# Altium schematic symbol library HAKATAYA.SchLib: 83 symbols
Pins are listed as number, name and electrical type; pins without a type are passive.

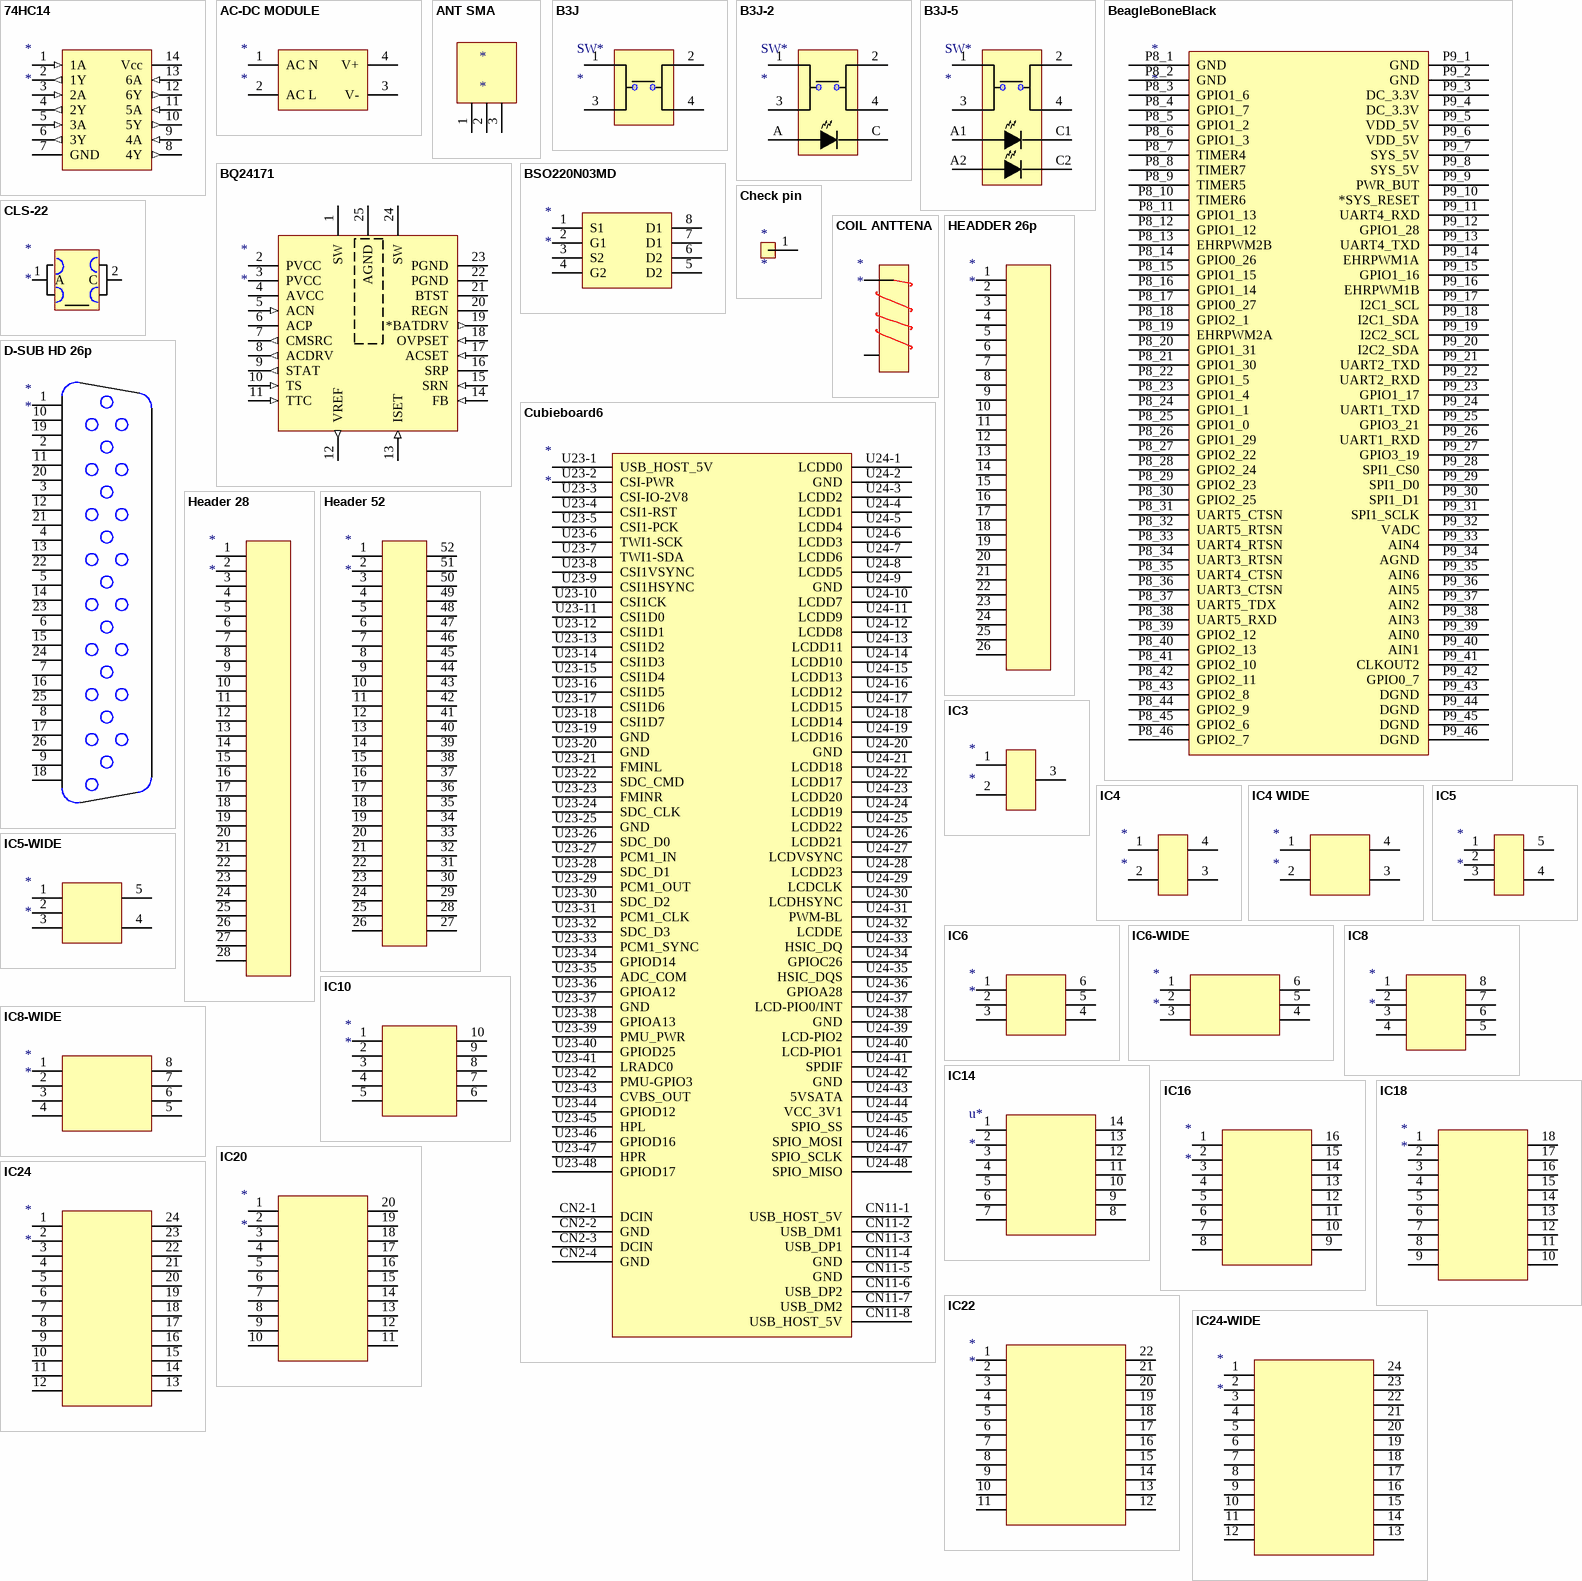
[diagram p0: symbols 74HC14 to IC24-WIDE]

## 74HC14
designator *
footprint DB014 (SSOP, Plastic; 14 Leads; Body Width 5.3 mm; Pitch 0.65 mm)
pins: 1 1A (in), 2 1Y (out), 3 2A (in), 4 2Y (out), 5 3A (in), 6 3Y (out), 7 GND (power), 8 4Y (out), 9 4A (in), 10 5Y (out), 11 5A (in), 12 6Y (out), 13 6A (in), 14 Vcc (power)

## AC-DC MODULE
designator *
pins: 1 AC N, 2 AC L, 3 V-, 4 V+

## ANT SMA
designator *
pins: 1, 2, 3

## B3J
designator SW*
pins: 1, 2, 3, 4 2

## B3J-2
designator SW*
pins: 1, 2, 3, 4 2, A, C

## B3J-5
designator SW*
pins: 1, 2, 3, 4 2, A1, A2, C1, C2

## BeagleBoneBlack
designator *
footprint BeagleBoneBlack
pins: P8_1 GND, P8_2 GND, P8_3 GPIO1_6, P8_4 GPIO1_7, P8_5 GPIO1_2, P8_6 GPIO1_3, P8_7 TIMER4, P8_8 TIMER7, P8_9 TIMER5, P8_10 TIMER6, P8_11 GPIO1_13, P8_12 GPIO1_12, P8_13 EHRPWM2B, P8_14 GPIO0_26, P8_15 GPIO1_15, P8_16 GPIO1_14, P8_17 GPIO0_27, P8_18 GPIO2_1, P8_19 EHRPWM2A, P8_20 GPIO1_31, P8_21 GPIO1_30, P8_22 GPIO1_5, P8_23 GPIO1_4, P8_24 GPIO1_1, P8_25 GPIO1_0, P8_26 GPIO1_29, P8_27 GPIO2_22, P8_28 GPIO2_24, P8_29 GPIO2_23, P8_30 GPIO2_25, P8_31 UART5_CTSN, P8_32 UART5_RTSN, P8_33 UART4_RTSN, P8_34 UART3_RTSN, P8_35 UART4_CTSN, P8_36 UART3_CTSN, P8_37 UART5_TDX, P8_38 UART5_RXD, P8_39 GPIO2_12, P8_40 GPIO2_13, P8_41 GPIO2_10, P8_42 GPIO2_11, P8_43 GPIO2_8, P8_44 GPIO2_9, P8_45 GPIO2_6, P8_46 GPIO2_7, P9_1 GND, P9_2 GND, P9_3 DC_3.3V (power), P9_4 DC_3.3V (power), P9_5 VDD_5V (power), P9_6 VDD_5V (power), P9_7 SYS_5V (power), P9_8 SYS_5V (power), P9_9 PWR_BUT, P9_10 *SYS_RESET, P9_11 UART4_RXD, P9_12 GPIO1_28, P9_13 UART4_TXD, P9_14 EHRPWM1A, P9_15 GPIO1_16, P9_16 EHRPWM1B, P9_17 I2C1_SCL, P9_18 I2C1_SDA, P9_19 I2C2_SCL, P9_20 I2C2_SDA, P9_21 UART2_TXD, P9_22 UART2_RXD, P9_23 GPIO1_17, P9_24 UART1_TXD, P9_25 GPIO3_21, P9_26 UART1_RXD, P9_27 GPIO3_19, P9_28 SPI1_CS0, P9_29 SPI1_D0, P9_30 SPI1_D1, P9_31 SPI1_SCLK, P9_32 VADC, P9_33 AIN4, P9_34 AGND, P9_35 AIN6, P9_36 AIN5, P9_37 AIN2, P9_38 AIN3, P9_39 AIN0, P9_40 AIN1, P9_41 CLKOUT2, P9_42 GPIO0_7, P9_43 DGND, P9_44 DGND, P9_45 DGND, P9_46 DGND

## BQ24171
designator *
pins: 1 SW (power), 2 PVCC (power), 3 PVCC (power), 4 AVCC (power), 5 ACN (in), 6 ACP (power), 7 CMSRC (out), 8 ACDRV (out), 9 STAT (out), 10 TS (in), 11 TTC (in), 12 VREF (out), 13 ISET (in), 14 FB (in), 15 SRN (in), 16 SRP (power), 17 ACSET (in), 18 OVPSET (in), 19 *BATDRV (out), 20 REGN (power), 21 BTST (power), 22 PGND (power), 23 PGND (power), 24 SW (power), 25 AGND (power)

## BSO220N03MD
designator *
pins: 1 S1, 2 G1, 3 S2, 4 G2, 5 D2, 6 D2, 7 D1, 8 D1

## Check pin
designator *
pins: 1

## CLS-22
designator *
footprint CLS-15-22C
pins: 1 A, 2 C

## COIL ANTTENA
designator *
pins: 1, 3

## Cubieboard6
designator *
footprint Cubieboard6
pins: CN2-1 DCIN, CN2-2 GND, CN2-3 DCIN, CN2-4 GND, CN11-1 USB_HOST_5V, CN11-2 USB_DM1, CN11-3 USB_DP1, CN11-4 GND, CN11-5 GND, CN11-6 USB_DP2, CN11-7 USB_DM2, CN11-8 USB_HOST_5V, U23-1 USB_HOST_5V, U23-2 CSI-PWR, U23-3 CSI-IO-2V8, U23-4 CSI1-RST, U23-5 CSI1-PCK, U23-6 TWI1-SCK, U23-7 TWI1-SDA, U23-8 CSI1VSYNC, U23-9 CSI1HSYNC, U23-10 CSI1CK, U23-11 CSI1D0, U23-12 CSI1D1, U23-13 CSI1D2, U23-14 CSI1D3, U23-15 CSI1D4, U23-16 CSI1D5, U23-17 CSI1D6, U23-18 CSI1D7, U23-19 GND, U23-20 GND, U23-21 FMINL, U23-22 SDC_CMD, U23-23 FMINR, U23-24 SDC_CLK, U23-25 GND, U23-26 SDC_D0, U23-27 PCM1_IN, U23-28 SDC_D1, U23-29 PCM1_OUT, U23-30 SDC_D2, U23-31 PCM1_CLK, U23-32 SDC_D3, U23-33 PCM1_SYNC, U23-34 GPIOD14, U23-35 ADC_COM, U23-36 GPIOA12, U23-37 GND, U23-38 GPIOA13, U23-39 PMU_PWR, U23-40 GPIOD25, U23-41 LRADC0, U23-42 PMU-GPIO3, U23-43 CVBS_OUT, U23-44 GPIOD12, U23-45 HPL, U23-46 GPIOD16, U23-47 HPR, U23-48 GPIOD17, U24-1 LCDD0, U24-2 GND, U24-3 LCDD2 (power), U24-4 LCDD1 (power), U24-5 LCDD4 (power), U24-6 LCDD3 (power), U24-7 LCDD6 (power), U24-8 LCDD5 (power), U24-9 GND, U24-10 LCDD7, U24-11 LCDD9, U24-12 LCDD8, U24-13 LCDD11, U24-14 LCDD10, U24-15 LCDD13, U24-16 LCDD12, U24-17 LCDD15, U24-18 LCDD14, U24-19 LCDD16, U24-20 GND, U24-21 LCDD18, U24-22 LCDD17, U24-23 LCDD20, U24-24 LCDD19, U24-25 LCDD22, U24-26 LCDD21, U24-27 LCDVSYNC, U24-28 LCDD23, U24-29 LCDCLK, U24-30 LCDHSYNC, U24-31 PWM-BL, U24-32 LCDDE, U24-33 HSIC_DQ, U24-34 GPIOC26, U24-35 HSIC_DQS, U24-36 GPIOA28, U24-37 LCD-PIO0/INT, U24-38 GND, U24-39 LCD-PIO2, U24-40 LCD-PIO1, U24-41 SPDIF, U24-42 GND, U24-43 5VSATA, U24-44 VCC_3V1, U24-45 SPIO_SS, U24-46 SPIO_MOSI, U24-47 SPIO_SCLK, U24-48 SPIO_MISO

## D-SUB HD 26p
designator *
footprint D-SUB HD 26p (9,8,9)
pins: 1, 2, 3, 4, 5, 6, 7, 8, 9, 10, 11, 12, 13, 14, 15, 16, 17, 18, 19, 20, 21, 22, 23, 24, 25, 26

## HEADDER 26p
designator *
pins: 1, 2, 3, 4, 5, 6, 7, 8, 9, 10, 11, 12, 13, 14, 15, 16, 17, 18, 19, 20, 21, 22, 23, 24, 25, 26

## Header 28
designator *
pins: 1, 2, 3, 4, 5, 6, 7, 8, 9, 10, 11, 12, 13, 14, 15, 16, 17, 18, 19, 20, 21, 22, 23, 24, 25, 26, 27, 28

## Header 52
designator *
pins: 1, 2, 3, 4, 5, 6, 7, 8, 9, 10, 11, 12, 13, 14, 15, 16, 17, 18, 19, 20, 21, 22, 23, 24, 25, 26, 27, 28, 29, 30, 31, 32, 33, 34, 35, 36, 37, 38, 39, 40, 41, 42, 43, 44, 45, 46, 47, 48, 49, 50, 51, 52

## IC3
designator *
pins: 1, 2, 3

## IC4
designator *
pins: 1, 2, 3, 4

## IC4 WIDE
designator *
pins: 1, 2, 3, 4

## IC5
designator *
pins: 1, 2, 3, 4, 5

## IC5-WIDE
designator *
pins: 1, 2, 3, 4, 5

## IC6
designator *
pins: 1, 2, 3, 4, 5, 6

## IC6-WIDE
designator *
pins: 1, 2, 3, 4, 5, 6

## IC8
designator *
pins: 1, 2, 3, 4, 5, 6, 7, 8

## IC8-WIDE
designator *
pins: 1, 2, 3, 4, 5, 6, 7, 8

## IC10
designator *
pins: 1, 2, 3, 4, 5, 6, 7, 8, 9, 10

## IC14
designator u*
pins: 1, 2, 3, 4, 5, 6, 7, 8, 9, 10, 11, 12, 13, 14

## IC16
designator *
pins: 1, 2, 3, 4, 5, 6, 7, 8, 9, 10, 11, 12, 13, 14, 15, 16

## IC18
designator *
pins: 1, 2, 3, 4, 5, 6, 7, 8, 9, 10, 11, 12, 13, 14, 15, 16, 17, 18

## IC20
designator *
pins: 1, 2, 3, 4, 5, 6, 7, 8, 9, 10, 11, 12, 13, 14, 15, 16, 17, 18, 19, 20

## IC22
designator *
pins: 1, 2, 3, 4, 5, 6, 7, 8, 9, 10, 11, 12, 13, 14, 15, 16, 17, 18, 19, 20, 21, 22

## IC24
designator *
pins: 1, 2, 3, 4, 5, 6, 7, 8, 9, 10, 11, 12, 13, 14, 15, 16, 17, 18, 19, 20, 21, 22, 23, 24

## IC24-WIDE
designator *
pins: 1, 2, 3, 4, 5, 6, 7, 8, 9, 10, 11, 12, 13, 14, 15, 16, 17, 18, 19, 20, 21, 22, 23, 24

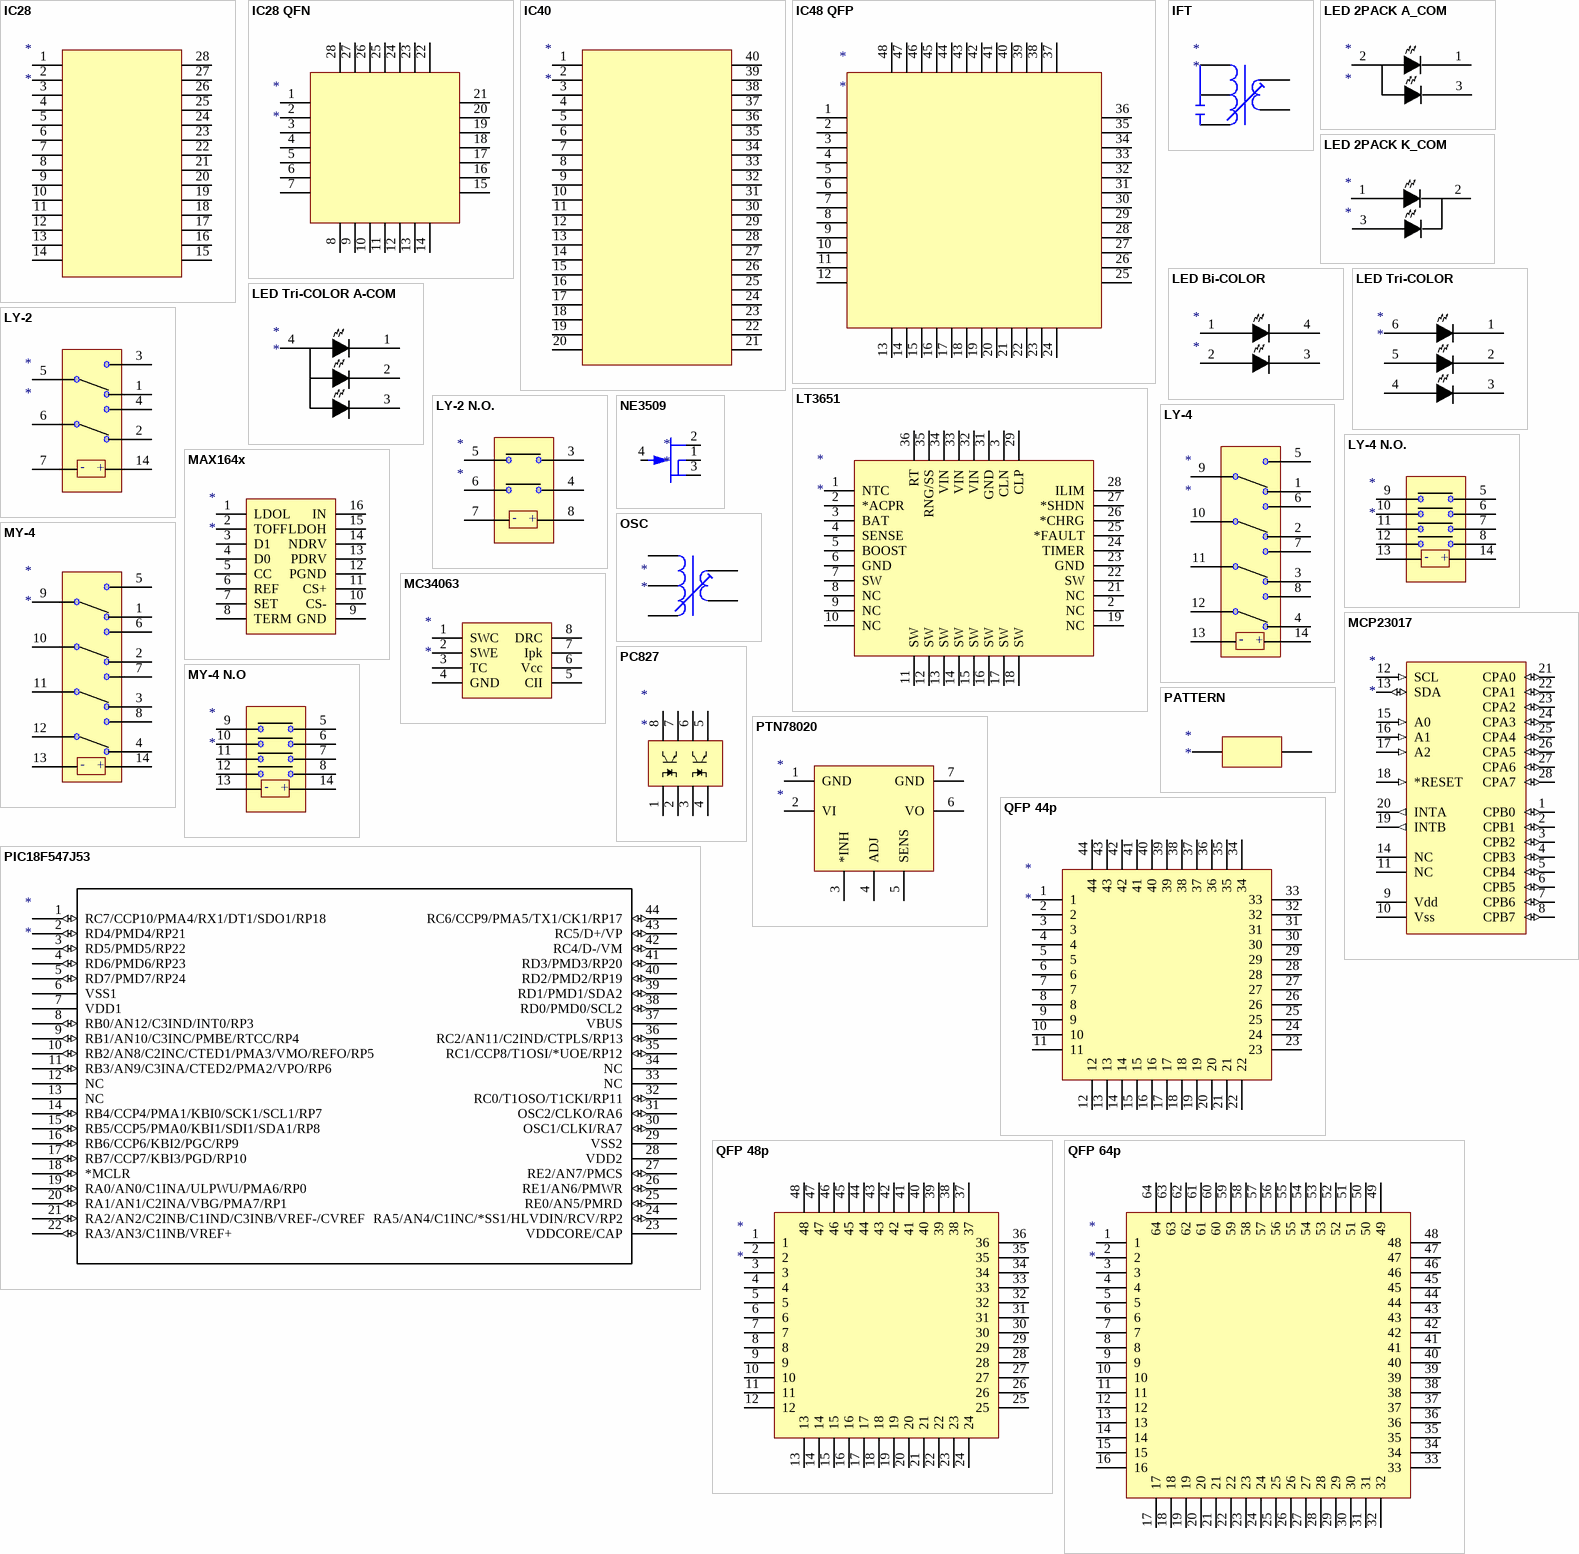
[diagram p1: symbols IC28 to QFP 64p]

## IC28
designator *
pins: 1, 2, 3, 4, 5, 6, 7, 8, 9, 10, 11, 12, 13, 14, 15, 16, 17, 18, 19, 20, 21, 22, 23, 24, 25, 26, 27, 28

## IC28 QFN
designator *
pins: 1, 2, 3, 4, 5, 6, 7, 8, 9, 10, 11, 12, 13, 14, 15, 16, 17, 18, 19, 20, 21, 22, 23, 24, 25, 26, 27, 28

## IC40
designator *
pins: 1, 2, 3, 4, 5, 6, 7, 8, 9, 10, 11, 12, 13, 14, 15, 16, 17, 18, 19, 20, 21, 22, 23, 24, 25, 26, 27, 28, 29, 30, 31, 32, 33, 34, 35, 36, 37, 38, 39, 40

## IC48 QFP
designator *
pins: 1, 2, 3, 4, 5, 6, 7, 8, 9, 10, 11, 12, 13, 14, 15, 16, 17, 18, 19, 20, 21, 22, 23, 24, 25, 26, 27, 28, 29, 30, 31, 32, 33, 34, 35, 36, 37, 38, 39, 40, 41, 42, 43, 44, 45, 46, 47, 48

## IFT
designator *
pins: 1, 2 A, 3, 4, 5

## LED 2PACK A_COM
designator *
footprint LED 3READ
pins: 1 K1, 2 A, 3 K2

## LED 2PACK K_COM
designator *
footprint LED 3READ
pins: 1 A1, 2 K, 3 A2

## LED Bi-COLOR
designator *
footprint LED SMD Bi-COLOR (PITCH 0.75 / 4READS)
pins: 1 A1, 2 A2, 3 K2, 4 K1

## LED Tri-COLOR
designator *
pins: 1 K1, 2 K2, 3 K3, 4 A3, 5 A2, 6 A1

## LED Tri-COLOR A-COM
designator *
pins: 1 K1, 2 K2, 3 K3, 4 A

## LT3651
designator *
pins: 1 NTC, 2 *ACPR, 2 NC, 3 BAT, 3 CLN, 4 SENSE, 5 BOOST, 6 GND, 7 SW, 8 NC, 9 NC, 10 NC, 11 SW, 12 SW, 13 SW, 14 SW, 15 SW, 16 SW, 17 SW, 18 SW, 19 NC, 21 NC, 22 SW, 23 GND, 24 TIMER, 25 *FAULT, 26 *CHRG, 27 *SHDN, 28 ILIM, 29 CLP, 31 GND, 32 VIN, 33 VIN, 34 VIN, 35 RNG/SS, 36 RT

## LY-2
designator *
pins: 1, 2, 3, 4, 5, 6, 7, 14
text: -; +

## LY-2 N.O.
designator *
pins: 3, 4, 5, 6, 7, 8
text: -; +

## LY-4
designator *
pins: 1, 2, 3, 4, 5, 6, 7, 8, 9, 10, 11, 12, 13, 14
text: -; +

## LY-4 N.O.
designator *
pins: 5, 6, 7, 8, 9, 10, 11, 12, 13, 14
text: -; +

## MAX164x
designator *
pins: 1 LDOL, 2 TOFF, 3 D1, 4 D0, 5 CC, 6 REF, 7 SET, 8 TERM, 9 GND, 10 CS-, 11 CS+, 12 PGND, 13 PDRV, 14 NDRV, 15 LDOH, 16 IN

## MC34063
designator *
footprint SO-8 (MC34063_ST)
pins: 1 SWC, 2 SWE, 3 TC, 4 GND, 5 CII, 6 Vcc, 7 Ipk, 8 DRC

## MCP23017
designator *
footprint QFN-S28_L (28-Pin Saw Version Quad Flat No-Lead 0.65 mm Pitch, IPC High Density)
pins: 1 CPB0 (io), 2 CPB1 (io), 3 CPB2 (io), 4 CPB3 (io), 5 CPB4 (io), 6 CPB5 (io), 7 CPB6 (io), 8 CPB7 (io), 9 Vdd (power), 10 Vss (power), 11 NC, 12 SCL (in), 13 SDA (io), 14 NC, 15 A0 (in), 16 A1 (in), 17 A2 (in), 18 *RESET (in), 19 INTB (out), 20 INTA (out), 21 CPA0 (io), 22 CPA1 (io), 23 CPA2 (io), 24 CPA3 (io), 25 CPA4 (io), 26 CPA5 (io), 27 CPA6 (io), 28 CPA7 (io)

## MY-4
designator *
pins: 1, 2, 3, 4, 5, 6, 7, 8, 9, 10, 11, 12, 13, 14
text: -; +

## MY-4 N.O
designator *
pins: 5, 6, 7, 8, 9, 10, 11, 12, 13, 14
text: -; +

## NE3509
designator *
pins: 1 S, 2 D, 3 S, 4 G

## OSC
designator *
pins: 1, 2, 3, 4, 5

## PATTERN
designator *
pins: 1, 2

## PC827
designator *
footprint DIP-P8/E10
pins: 1, 2, 3, 4 2, 5, 6, 7, 8

## PIC18F547J53
designator *
footprint TQFP44_10x10MC
pins: 1 RC7/CCP10/PMA4/RX1/DT1/SDO1/RP18 (io), 2 RD4/PMD4/RP21 (io), 3 RD5/PMD5/RP22 (io), 4 RD6/PMD6/RP23 (io), 5 RD7/PMD7/RP24 (io), 6 VSS1 (power), 7 VDD1 (power), 8 RB0/AN12/C3IND/INT0/RP3 (io), 9 RB1/AN10/C3INC/PMBE/RTCC/RP4 (io), 10 RB2/AN8/C2INC/CTED1/PMA3/VMO/REFO/RP5 (io), 11 RB3/AN9/C3INA/CTED2/PMA2/VPO/RP6 (io), 12 NC, 13 NC, 14 RB4/CCP4/PMA1/KBI0/SCK1/SCL1/RP7 (io), 15 RB5/CCP5/PMA0/KBI1/SDI1/SDA1/RP8 (io), 16 RB6/CCP6/KBI2/PGC/RP9 (io), 17 RB7/CCP7/KBI3/PGD/RP10 (io), 18 *MCLR (io), 19 RA0/AN0/C1INA/ULPWU/PMA6/RP0 (io), 20 RA1/AN1/C2INA/VBG/PMA7/RP1 (io), 21 RA2/AN2/C2INB/C1IND/C3INB/VREF-/CVREF (io), 22 RA3/AN3/C1INB/VREF+ (io), 23 VDDCORE/CAP (power), 24 RA5/AN4/C1INC/*SS1/HLVDIN/RCV/RP2 (io), 25 RE0/AN5/PMRD (io), 26 RE1/AN6/PMWR (io), 27 RE2/AN7/PMCS (io), 28 VDD2 (power), 29 VSS2 (power), 30 OSC1/CLKI/RA7 (io), 31 OSC2/CLKO/RA6 (io), 32 RC0/T1OSO/T1CKI/RP11 (io), 33 NC, 34 NC, 35 RC1/CCP8/T1OSI/*UOE/RP12 (io), 36 RC2/AN11/C2IND/CTPLS/RP13 (io), 37 VBUS (power), 38 RD0/PMD0/SCL2 (io), 39 RD1/PMD1/SDA2 (io), 40 RD2/PMD2/RP19 (io), 41 RD3/PMD3/RP20 (io), 42 RC4/D-/VM (io), 43 RC5/D+/VP (io), 44 RC6/CCP9/PMA5/TX1/CK1/RP17 (io)

## PTN78020
designator *
footprint PTN78020 (REGURATOR Ti PTN78020W)
pins: 1 GND, 2 VI, 3 *INH, 4 ADJ, 5 SENS, 6 VO, 7 GND

## QFP 44p
designator *
footprint QFP 44P (0.8mm PITCH, 10mm BODY, SQR)
pins: 1, 2, 3, 4, 5, 6, 7, 8, 9, 10, 11, 12, 13, 14, 15, 16, 17, 18, 19, 20, 21, 22, 23, 24, 25, 26, 27, 28, 29, 30, 31, 32, 33, 34, 35, 36, 37, 38, 39, 40, 41, 42, 43, 44

## QFP 48p
designator *
footprint DW1000 (Pitch:0.4mm)
pins: 1, 2, 3, 4, 5, 6, 7, 8, 9, 10, 11, 12, 13, 14, 15, 16, 17, 18, 19, 20, 21, 22, 23, 24, 25, 26, 27, 28, 29, 30, 31, 32, 33, 34, 35, 36, 37, 38, 39, 40, 41, 42, 43, 44, 45, 46, 47, 48

## QFP 64p
designator *
footprint TQFP 64P (10x10x1 mm, 2.00mm)
pins: 1, 2, 3, 4, 5, 6, 7, 8, 9, 10, 11, 12, 13, 14, 15, 16, 17, 18, 19, 20, 21, 22, 23, 24, 25, 26, 27, 28, 29, 30, 31, 32, 33, 34, 35, 36, 37, 38, 39, 40, 41, 42, 43, 44, 45, 46, 47, 48, 49, 50, 51, 52, 53, 54, 55, 56, 57, 58, 59, 60, 61, 62, 63, 64

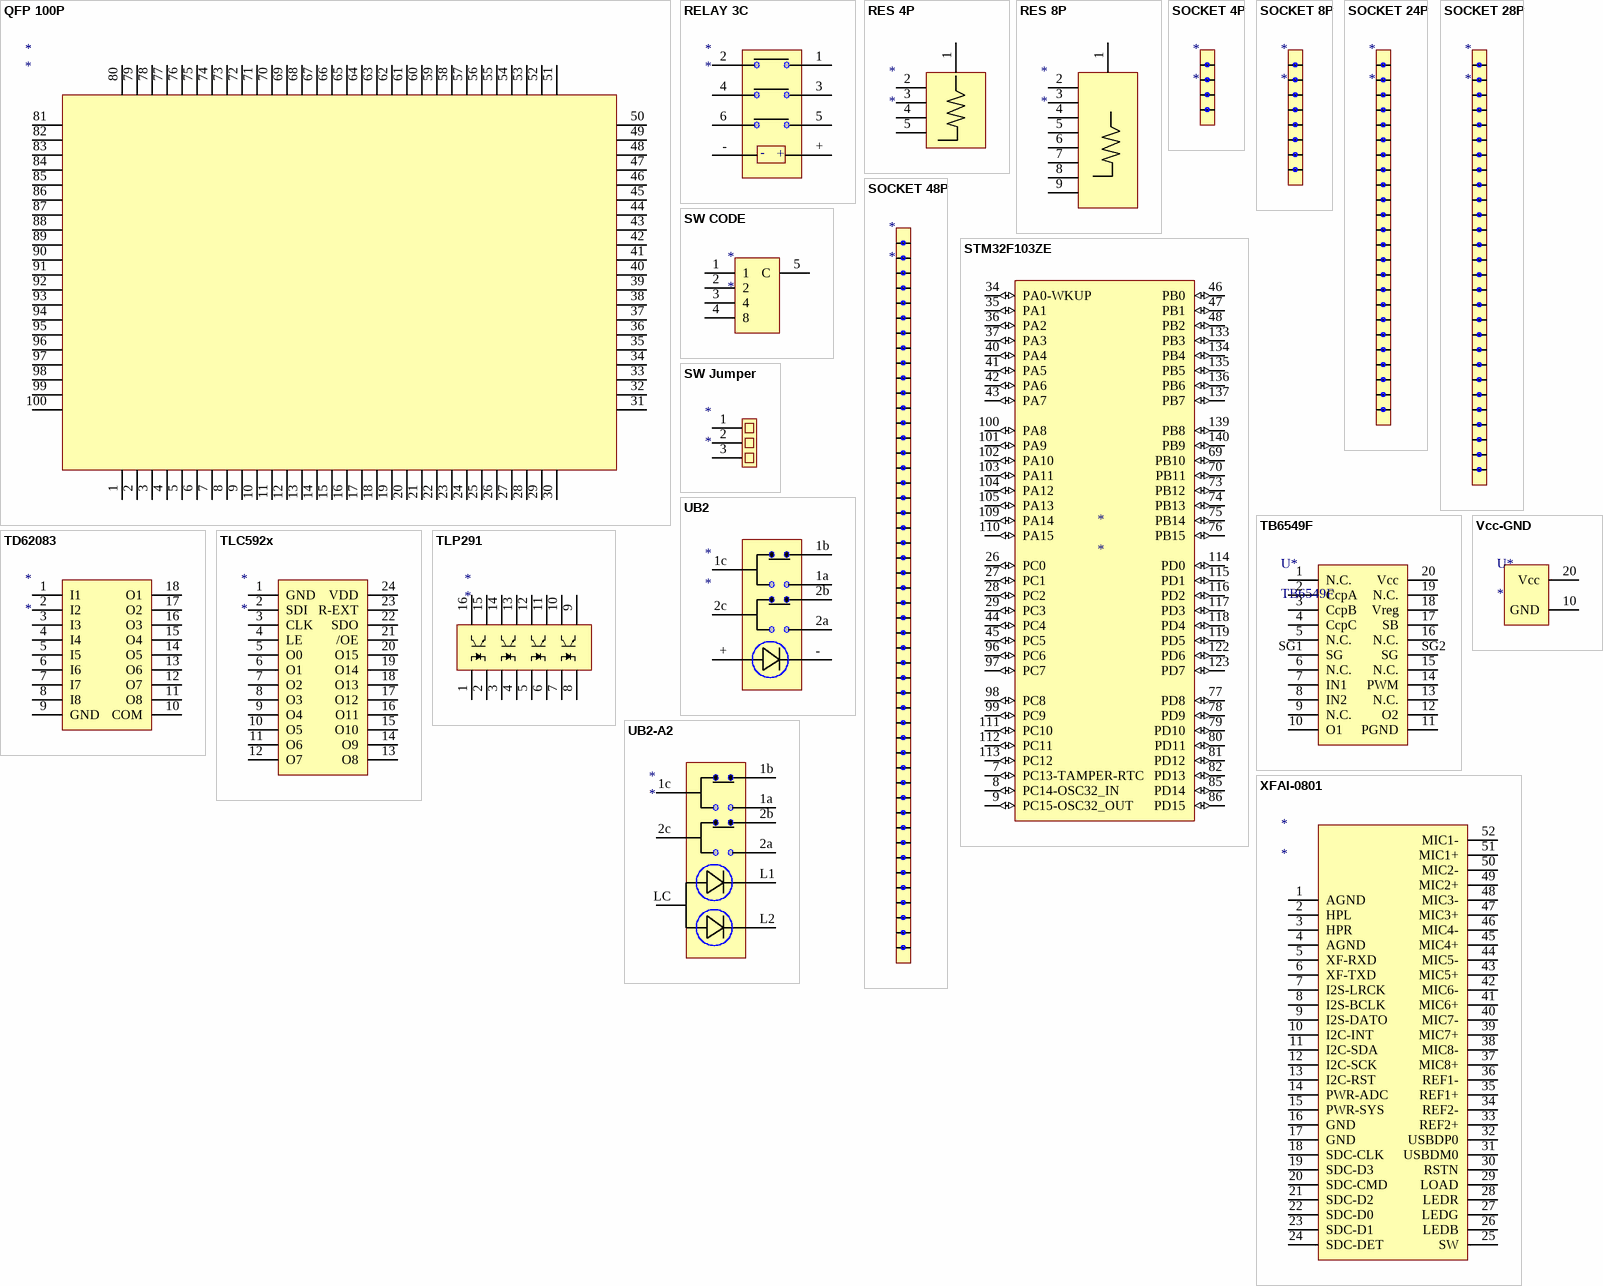
[diagram p2: symbols QFP 100P to XFAI-0801]

## QFP 100P
designator *
pins: 1, 2, 3, 4, 5, 6, 7, 8, 9, 10, 11, 12, 13, 14, 15, 16, 17, 18, 19, 20, 21, 22, 23, 24, 25, 26, 27, 28, 29, 30, 31, 32, 33, 34, 35, 36, 37, 38, 39, 40, 41, 42, 43, 44, 45, 46, 47, 48, 49, 50, 51, 52, 53, 54, 55, 56, 57, 58, 59, 60, 61, 62, 63, 64, 65, 66, 67, 68, 69, 70, 71, 72, 73, 74, 75, 76, 77, 78, 79, 80, 81, 82, 83, 84, 85, 86, 87, 88, 89, 90, 91, 92, 93, 94, 95, 96, 97, 98, 99, 100

## RELAY 3C
designator *
pins: 1, 2, 3, 4, 5, 6, + 8, - 7

## RES 4P
designator *
footprint SIP 5P
pins: 1, 2, 3, 4, 5

## RES 8P
designator *
pins: 1, 2, 3, 4, 5, 6, 7, 8, 9

## SOCKET 4P
designator *
pins: 1, 2, 3, 4

## SOCKET 8P
designator *
pins: 1, 2, 3, 4, 5, 6, 7, 8

## SOCKET 24P
designator *
pins: 1, 2, 3, 4, 5, 6, 7, 8, 9, 10, 11, 12, 13, 14, 15, 16, 17, 18, 19, 20, 21, 22, 23, 24

## SOCKET 28P
designator *
pins: 1, 2, 3, 4, 5, 6, 7, 8, 9, 10, 11, 12, 13, 14, 15, 16, 17, 18, 19, 20, 21, 22, 23, 24, 25, 26, 27, 28

## SOCKET 48P
designator *
pins: 1, 2, 3, 4, 5, 6, 7, 8, 9, 10, 11, 12, 13, 14, 15, 16, 17, 18, 19, 20, 21, 22, 23, 24, 25, 26, 27, 28, 29, 30, 31, 32, 33, 34, 35, 36, 37, 38, 39, 40, 41, 42, 43, 44, 45, 46, 47, 48

## STM32F103ZE
designator *
footprint STM-LQFP144_N
pins: 7 PC13-TAMPER-RTC (io) "PC13-TAMPER-RTC/PC13/TAMPER-RTC", 8 PC14-OSC32_IN (io) "PC14-OSC32_IN/PC14/OSC32_IN", 9 PC15-OSC32_OUT (io) "PC15-OSC32_OUT/PC15/OSC32_OUT", 26 PC0 (io) "PC0/ADC123_IN10", 27 PC1 (io) "PC1/ADC123_IN11", 28 PC2 (io) "PC2/ADC123_IN12", 29 PC3 (io) "PC3/ADC123_IN13", 34 PA0-WKUP (io) "PA0-WKUP/PA0/WKUP/USART2_CTS/ADC123_IN0/TIM2_CH1_ETR/TIM5_CH1/TIM8_ETR", 35 PA1 (io) "PA1/USART2_RTS/ADC123_IN1/TIM5_CH2/TIM2_CH2", 36 PA2 (io) "PA2/USART2_TX/TIM5_CH3/ADC123_IN2/TIM2_CH3", 37 PA3 (io) "PA3/USART2_RX/TIM5_CH4/ADC123_IN3/TIM2_CH4", 40 PA4 (io) "PA4/SPI1_NSS/USART2_CK/DAC_OUT1/ADC12_IN4", 41 PA5 (io) "PA5/SPI1_SCK/DAC_OUT2/ADC12_IN5", 42 PA6 (io) "PA6/SPI1_MISO/TIM8_BKIN/ADC12_IN6/TIM3_CH1/TIM1_BKIN", 43 PA7 (io) "PA7/SPI1_MOSI/TIM8_CH1N/ADC12_IN7/TIM3_CH2/TIM1_CH1N", 44 PC4 (io) "PC4/ADC12_IN14", 45 PC5 (io) "PC5/ADC12_IN15", 46 PB0 (io) "PB0/ADC12_IN8/TIM3_CH3/TIM8_CH2N/TIM1_CH2N", 47 PB1 (io) "PB1/ADC12_IN9/TIM3_CH4/TIM8_CH3N/TIM1_CH3N", 48 PB2 (io) "PB2/BOOT1", 69 PB10 (io) "PB10/I2C2_SCL/USART3_TX/TIM2_CH3", 70 PB11 (io) "PB11/I2C2_SDA/USART3_RX/TIM2_CH4", 73 PB12 (io) "PB12/SPI2_NSS/I2S2_WS/I2C2_SMBA/USART3_CK/TIM1_BKIN", 74 PB13 (io) "PB13/SPI2_SCK/I2S2_CK/USART3_CTS/TIM1_CH1N", 75 PB14 (io) "PB14/SPI2_MISO/TIM1_CH2N/USART3_RTS", 76 PB15 (io) "PB15/SPI2_MOSI/I2S2_SD/TIM1_CH3N", 77 PD8 (io) "PD8/FSMC_D13/USART3_TX", 78 PD9 (io) "PD9/FSMC_D14/USART3_RX", 79 PD10 (io) "PD10/FSMC_D15/USART3_CK", 80 PD11 (io) "PD11/FSMC_A16/USART3_CTS", 81 PD12 (io) "PD12/FSMC_A17/TIM4_CH1/USART3_RTS", 82 PD13 (io) "PD13/FSMC_A18/TIM4_CH2", 85 PD14 (io) "PD14/FSMC_D0/TIM4_CH3", 86 PD15 (io) "PD15/FSMC_D1/TIM4_CH4", 96 PC6 (io) "PC6/I2S2_MCK/TIM8_CH1/SDIO_D6/TIM3_CH1", 97 PC7 (io) "PC7/I2S3_MCK/TIM8_CH2/SDIO_D7/TIM3_CH2", 98 PC8 (io) "PC8/TIM8_CH3/SDIO_D0/TIM3_CH3", 99 PC9 (io) "PC9/TIM8_CH4/SDIO_D1/TIM3_CH4", 100 PA8 (io) "PA8/USART1_CK/TIM1_CH1/MCO", 101 PA9 (io) "PA9/USART1_TX/TIM1_CH2", 102 PA10 (io) "PA10/USART1_RX/TIM1_CH3", 103 PA11 (io) "PA11/USART1_CTS/USBDM/CAN_RX/TIM1_CH4", 104 PA12 (io) "PA12/USART1_RTS/USBDP/CAN_TX/TIM1_ETR", 105 PA13 (io) "PA13/JTMS-SWDIO", 109 PA14 (io) "PA14/JTCK-SWCLK", 110 PA15 (io) "PA15/JTDI/SPI3_NSS/I2S3_WS/TIM2_CH1_ETR/SPI1_NSS", 111 PC10 (io) "PC10/UART4_TX/SDIO_D2/USART3_TX", 112 PC11 (io) "PC11/UART4_RX/SDIO_D3/USART3_RX", 113 PC12 (io) "PC12/UART5_TX/SDIO_CK/USART3_CK", 114 PD0 (io) "PD0/OSC_IN/FSMC_D2/CAN_RX", 115 PD1 (io) "PD1/OSC_OUT/FSMC_D3/CAN_TX", 116 PD2 (io) "PD2/TIM3_ETR/UART5_RX/SDIO_CMD", 117 PD3 (io) "PD3/FSMC_CLK/USART2_CTS", 118 PD4 (io) "PD4/FSMC_NOE/USART2_RTS", 119 PD5 (io) "PD5/FSMC_NWE/USART2_TX", 122 PD6 (io) "PD6/FSMC_NWAIT/USART2_RX", 123 PD7 (io) "PD7/FSMC_NE1/FSMC_NCE2/USART2_CK", 133 PB3 (io) "PB3/JTDO/SPI3_SCK/I2S3_CK/TRACESWO/TIM2_CH2/SPI1_SCK", 134 PB4 (io) "PB4/NJTRST/SPI3_MISO/TIM3_CH1/SPI1_MISO", 135 PB5 (io) "PB5/I2C1_SMBA/SPI3_MOSI/I2S3_SD/TIM3_CH2/SPI1_MOSI", 136 PB6 (io) "PB6/I2C1_SCL/TIM4_CH1/USART1_TX", 137 PB7 (io) "PB7/I2C1_SDA/FSMC_NADV/TIM4_CH2/USART1_RX", 139 PB8 (io) "PB8/TIM4_CH3/SDIO_D4/I2C1_SCL/CAN_RX", 140 PB9 (io) "PB9/TIM4_CH4/SDIO_D5/I2C1_SDA/CAN_TX"

## SW CODE
designator *
pins: 1, 2, 3 4, 4 8, 5 C

## SW Jumper
designator *
footprint VR (VR Trim)
pins: 1, 2, 3 4

## TB6549F
designator U*
footprint HSOP20-P-450
pins: 1 N.C., 2 CcpA, 3 CcpB, 4 CcpC, 5 N.C., 6 N.C., 7 IN1, 8 IN2, 9 N.C., 10 O1, 11 PGND, 12 O2, 13 N.C., 14 PWM, 15 N.C., 16 N.C., 17 SB, 18 Vreg, 19 N.C., 20 Vcc, SG1 SG, SG2 SG

## TD62083
designator *
footprint td62083
pins: 1 I1, 2 I2, 3 I3, 4 I4, 5 I5, 6 I6, 7 I7, 8 I8, 9 GND, 10 COM, 11 O8, 12 O7, 13 O6, 14 O5, 15 O4, 16 O3, 17 O2, 18 O1

## TLC592x
designator *
pins: 1 GND, 2 SDI, 3 CLK, 4 LE, 5 O0, 6 O1, 7 O2, 8 O3, 9 O4, 10 O5, 11 O6, 12 O7, 13 O8, 14 O9, 15 O10, 16 O11, 17 O12, 18 O13, 19 O14, 20 O15, 21 /OE, 22 SDO, 23 R-EXT, 24 VDD

## TLP291
designator *
pins: 1, 2, 3, 4 2, 5, 6, 7, 8 2, 9, 10, 11, 12, 13, 14, 15, 16

## UB2
designator *
footprint UB2 (NKK PUSH SW BODY H=10mm 15.24x15.24)
pins: 1a, 1b, 1c, 2a, 2b, 2c, +, -

## UB2-A2
designator *
pins: 1a, 1b, 1c, 2a, 2b, 2c, L1, L2, LC

## Vcc-GND
designator U*
pins: 10 GND, 20 Vcc

## XFAI-0801
designator *
footprint XFAI-0801
pins: 1 AGND, 2 HPL, 3 HPR, 4 AGND, 5 XF-RXD, 6 XF-TXD, 7 I2S-LRCK, 8 I2S-BCLK, 9 I2S-DATO, 10 I2C-INT, 11 I2C-SDA, 12 I2C-SCK, 13 I2C-RST, 14 PWR-ADC, 15 PWR-SYS, 16 GND, 17 GND, 18 SDC-CLK, 19 SDC-D3, 20 SDC-CMD, 21 SDC-D2, 22 SDC-D0, 23 SDC-D1, 24 SDC-DET, 25 SW, 26 LEDB, 27 LEDG, 28 LEDR, 29 LOAD, 30 RSTN, 31 USBDM0, 32 USBDP0, 33 REF2+, 34 REF2-, 35 REF1+, 36 REF1-, 37 MIC8+, 38 MIC8-, 39 MIC7+, 40 MIC7-, 41 MIC6+, 42 MIC6-, 43 MIC5+, 44 MIC5-, 45 MIC4+, 46 MIC4-, 47 MIC3+, 48 MIC3-, 49 MIC2+, 50 MIC2-, 51 MIC1+, 52 MIC1-